# Altium schematic symbol library SchLib.SchLib: 4 symbols
Pins are listed as number, name and electrical type; pins without a type are passive.

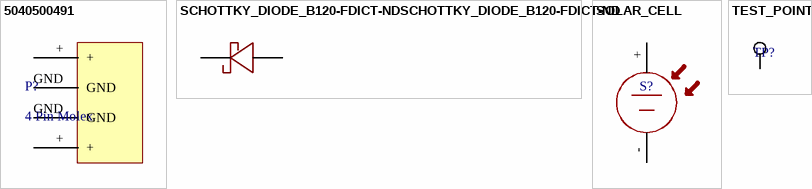
[diagram p0: symbols 5040500491 to TEST_POINT]

## 5040500491
designator P?, comment 4 Pin Molex
Conn Wire to Board HDR 4 POS 1.5mm Solder RA SMD Embossed T/R; Manufacturer Part Number 1: 5040500491; Connector Type: Blade Pin; Number of Positions: 4; Current Rating: 3A; Voltage Rating: 150V; Gender: Male; Glow Wire Compliant: Non-compliant; Supplier 1: Digi-Key; Supplier Part Number 1: WM10137CT-ND; Manufacturer 1: Molex; Stock 1: 19782; Pricing 1: 1=1.30000, 10=1.14700, 100=0.98980, 500=0.80982, 1000=0.71984 (USD); RoHS: Yes; Mount: Surface Mount; Weight: 0.004467oz; Housing Color: Black; Housing Material: Thermoplastic; Contact Material: Copper Alloy,Copper; Contact Plating: Gold; Color: Black; Min Operating Temperature: -40°C; Max Operating Temperature: 105°C; Orientation: Right Angle; Contact Gender: Male; Termination: Solder; Number of Rows: 1; Number of Contacts: 4; Packaging: Tape and Reel; Number of Circuits: 4; Package Quantity: 2700; Max Voltage Rating (AC): 150V; Length: 10.55mm; Pitch: 1.5mm; Depth: 6.44mm; REACH SVHC: Unknown; Halogen Free: Low Halogen; ComponentLink1URL: https://datasheet.ciiva.com/29130/5040500691-sd-29130538.pdf?src-supplier=Digi-Key; ComponentLink1Description: https://datasheet.ciiva.com/29130/5040500691-sd-29130538.pdf?src-supplier=Digi-Key; Category: Connectors, Interconnects
pins: +, +, GND, GND

## SCHOTTKY_DIODE_B120-FDICT-NDSCHOTTKY_DIODE_B120-FDICT-ND
designator D?
GateName_1: G$1; SymbolName_1: SCHOTTKY_DIODE_B120-FDICT-ND; DeviceName: SCHOTTKY_DIODE_B120-FDICT-ND; LibraryName: Solar_Fadi; DeviceSetName: SCHOTTKY_DIODE_B120-FDICT-ND; Package: SCHOTTKY_DIODE_B120-FDICT-ND
footprint SB_DIODE
pins: NEG, POS

## SOLAR_CELL
designator S?  (value not drawn)
footprint SOLAR_CELL
pins: +, -

## TEST_POINT
designator TP?  (value not drawn)
footprint TEST_POINT; pin to pad 38>PAD
pins: 38